# Altium footprint library SparkFun-Aesthetics.PCBLIB: 126 footprints (part 4 of 8)
Each footprint in its own frame and in the unit in brackets; x right, y up, seen from the top. Pads: shape width x height; smd on the part's side, far side on the other; paste and mask are expansions set on the pad; w line width, h text height; cw(c..) or ccw(c..) is an arc to the next point about the centre after c.
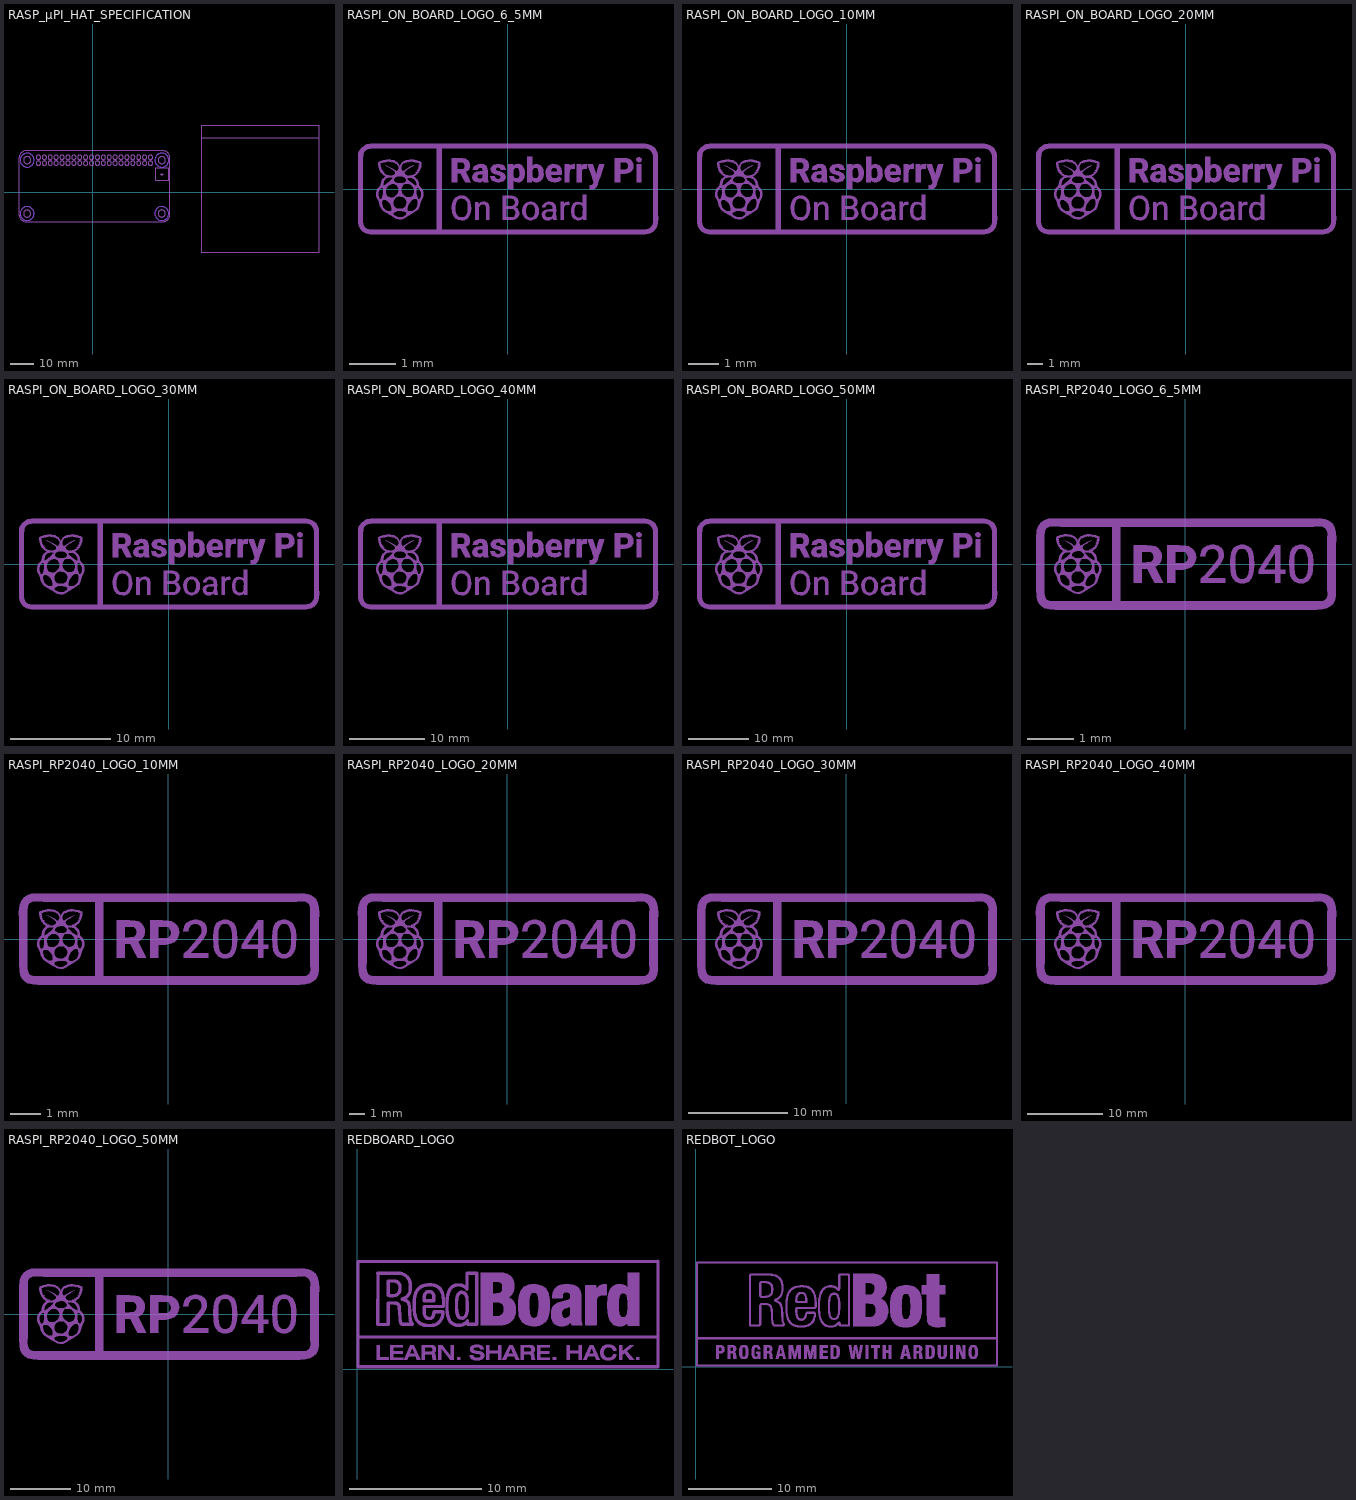
[diagram p3: the footprints below, top view; thin cyan lines are the x and y axes]

## RASP_μPI_HAT_SPECIFICATION [mil]
Top keep-out:
  circle w3: c-1112,543 r118.11
  circle w3: c1171.46,543 r118.11
  circle w3: c-1112.39,-362.51 r118.11
  circle w3: c1171.07,-362.12 r118.11
Bottom keep-out:
  circle w3: c-1112,543 r118.11
  circle w3: c1171.46,543 r118.11
  circle w3: c-1112.39,-362.51 r118.11
  circle w3: c1171.07,-362.12 r118.11
tDocu:
  circle w1: c-920.47,492.13 r37.45
  circle w1: c-920.47,591.73 r37.45
  circle w1: c-820.47,492.13 r37.45
  circle w1: c-820.47,591.73 r37.45
  circle w1: c-720.47,492.13 r37.45
  circle w1: c-720.47,591.73 r37.45
  circle w1: c-620.47,492.13 r37.45
  circle w1: c-620.47,591.73 r37.45
  circle w1: c-520.47,492.13 r37.45
  circle w1: c-520.47,591.73 r37.45
  circle w1: c-420.47,492.13 r37.45
  circle w1: c-420.47,591.73 r37.45
  circle w1: c-320.47,492.13 r37.45
  circle w1: c-320.47,591.73 r37.45
  circle w1: c-220.47,492.13 r37.45
  circle w1: c-220.47,591.73 r37.45
  circle w1: c-120.47,492.13 r37.45
  circle w1: c-120.47,591.73 r37.45
  circle w1: c-20.47,492.13 r37.45
  circle w1: c-20.47,591.73 r37.45
  circle w1: c79.53,492.13 r37.45
  circle w1: c79.53,591.73 r37.45
  circle w1: c179.53,492.13 r37.45
  circle w1: c179.53,591.73 r37.45
  circle w1: c279.53,492.13 r37.45
  circle w1: c279.53,591.73 r37.45
  circle w1: c379.53,492.13 r37.45
  circle w1: c379.53,591.73 r37.45
  circle w1: c479.53,492.13 r37.45
  circle w1: c479.53,591.73 r37.45
  circle w1: c579.53,492.13 r37.45
  circle w1: c579.53,591.73 r37.45
  circle w1: c679.53,492.13 r37.45
  circle w1: c679.53,591.73 r37.45
  circle w1: c779.53,492.13 r37.45
  circle w1: c779.53,591.73 r37.45
  circle w1: c879.53,492.13 r37.45
  circle w1: c879.53,591.73 r37.45
  circle w1: c979.53,492.13 r37.45
  circle w1: c979.53,591.73 r37.45
  circle w1: c-1112,543 r60.42
  circle w1: c-1112,543 r60.42
  circle w1: c1171.46,543 r60.42
  circle w1: c-1112.39,-362.51 r60.42
  circle w1: c-1112.39,-362.51 r60.42
  circle w1: c1171.07,-362.12 r60.42
  lines w8: -1250,-381.89 -1250,582.68 cw(c-1131.89,582.68) -1131.89,700.79 1190.94,700.79 cw(c1190.94,582.67) 1309.06,582.68 1309.06,-381.89 cw(c1190.94,-381.88) 1190.94,-500 -1131.89,-500 cw(c-1131.89,-381.89) -1250,-381.89
  lines w10: 1147.24,301.57 1196.85,301.57 ; 1171.65,277.17 1171.65,322.83 ; 1836.22,925.59 1836.22,1125.59 3836.22,1125.59 3836.22,925.59 ; 1836.22,925.59 1836.22,-1018.11 3836.22,-1018.11 3836.22,925.59 ; 1836.22,925.59 3836.22,925.59
  text "Min Î¼Hat Specifications" at 1886.22,975.59 h85
  text "- Mounting hole offset at top of" at 1886.22,535.59 h59.5
  text "board is not equal to mounting" at 1886.22,430.59 h59.5
  text "hole offset at bottom of board" at 1886.22,325.59 h59.5
  text "- Mounting holes are non-plated" at 1886.22,180.59 h59.5
  text "or electrically isolated." at 1886.22,75.59 h59.5
  text "- Must have minimum 3 mounting" at 1886.22,-419.41 h59.5
  text "holes" at 1886.22,-524.41 h59.5
  text "- If non-plated landing area use" at 1886.22,-64.41 h59.5
  text "trestrict and brestrict of radius" at 1886.22,-169.41 h59.5
  text "3.1mm" at 1886.22,-274.41 h59.5
  text "- Î¼Hat dimensions measures" at 1886.22,780.59 h59.5
  text "are in reference Layer 49" at 1886.22,675.59 h59.5
  text "- The box below the right" at 1889.76,-669.25 h59.5
  text "mounting hole is for a 2x4" at 1889.76,-774.25 h59.5
  text "pin header on the Pi 3" at 1889.76,-879.25 h59.5
  text "Model B+." at 1889.76,-984.25 h59.5
Reference:
  lines w3.94: 1062.99,196.85 1062.99,411.02 1279.53,411.02 1279.53,196.85 1062.99,196.85
  text "Units in MM" at -423.23,-1011.81 h66.93

## RASPI_ON_BOARD_LOGO_6_5MM [mil]
tPlace:
  drawing of 23 lines, arcs and shapes, not listed

## RASPI_ON_BOARD_LOGO_10MM [mil]
tPlace:
  drawing of 23 lines, arcs and shapes, not listed

## RASPI_ON_BOARD_LOGO_20MM [mil]
tPlace:
  drawing of 23 lines, arcs and shapes, not listed

## RASPI_ON_BOARD_LOGO_30MM [mil]
tPlace:
  drawing of 23 lines, arcs and shapes, not listed

## RASPI_ON_BOARD_LOGO_40MM [mil]
tPlace:
  drawing of 23 lines, arcs and shapes, not listed

## RASPI_ON_BOARD_LOGO_50MM [mil]
tPlace:
  drawing of 23 lines, arcs and shapes, not listed

## RASPI_RP2040_LOGO_6_5MM [mil]
tPlace:
  drawing of 10 lines, arcs and shapes, not listed

## RASPI_RP2040_LOGO_10MM [mil]
tPlace:
  drawing of 10 lines, arcs and shapes, not listed

## RASPI_RP2040_LOGO_20MM [mil]
tPlace:
  drawing of 10 lines, arcs and shapes, not listed

## RASPI_RP2040_LOGO_30MM [mil]
tPlace:
  drawing of 10 lines, arcs and shapes, not listed

## RASPI_RP2040_LOGO_40MM [mil]
tPlace:
  drawing of 10 lines, arcs and shapes, not listed

## RASPI_RP2040_LOGO_50MM [mil]
tPlace:
  drawing of 10 lines, arcs and shapes, not listed

## REDBOARD_LOGO [mil]
tPlace:
  drawing of 452 lines, arcs and shapes, not listed

## REDBOT_LOGO [mil]
tPlace:
  drawing of 405 lines, arcs and shapes, not listed

## REVISION [mil]
tDocu:
  text "Revision By:" at 0,0 h59.5